# Altium footprint library PotBourns.PcbLib: 1 footprints
Each footprint in its own frame and in the unit in brackets; x right, y up, seen from the top. Pads: shape width x height; smd on the part's side, far side on the other; paste and mask are expansions set on the pad; w line width, h text height; cw(c..) or ccw(c..) is an arc to the next point about the centre after c.
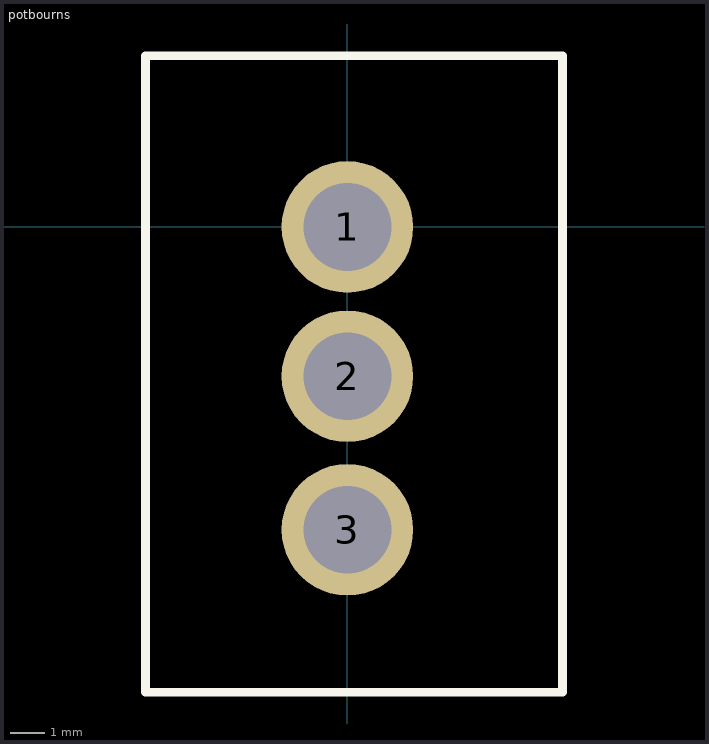
[diagram p0: the footprint, top view; thin cyan lines are the x and y axes]

## potbourns [mil]
pads (3):
  round 150 hole 100: 1(0,0) 2(0,-170) 3(0,-345)
Top Overlay:
  lines w10: -230,-530 -230,195 235,195 245,195 245,-530 -230,-530